# Altium footprint library SmartHalo_Footprints.PcbLib: 114 footprints (part 8 of 8)
Each footprint in its own frame and in the unit in brackets; x right, y up, seen from the top. Pads: shape width x height; smd on the part's side, far side on the other; paste and mask are expansions set on the pad; w line width, h text height; cw(c..) or ccw(c..) is an arc to the next point about the centre after c.
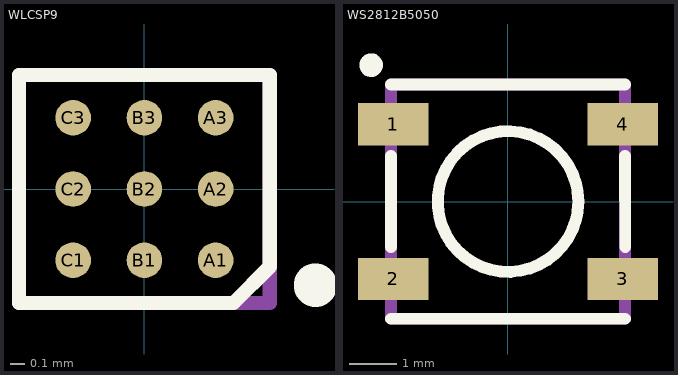
[diagram p7: the footprints below, top view; thin cyan lines are the x and y axes]

## WLCSP9 [mm] "WLCSP9, 1.6 x 1.76 mm, 9 pads 0.25 mm diameter, 0.5 mm pitch"
height 0.013
pads (9):
  round 0.25 smd mask+0.051: A1(0.5,-0.5) A2(0.5,0) A3(0.5,0.5) B1(0,-0.5) B2(0,0) B3(0,0.5) C1(-0.5,-0.5) C2(-0.5,0) C3(-0.5,0.5)
Top Overlay:
  circle w0.254: c1.2,-0.675 r0.025
  lines w0.1: -0.88,-0.8 -0.88,0.8 ; -0.875,-0.8 0.625,-0.8 0.88,-0.545 0.88,0.8 ; -0.875,0.8 0.875,0.8
3D Top:
  lines w0.1: -0.88,-0.8 -0.88,0.8 0.88,0.8 0.88,-0.8 -0.88,-0.8
3D body: height 0.51, standoff 0.19, extent -0.88,-0.8 0.88,0.8

## WS2812B5050 [mm] "WS RGB LED 5V SERIAL"
height 1.587
pads (4):
  rect 1.5x0.9 smd: 1(-2.45,1.65) 2(-2.45,-1.65) 3(2.45,-1.65) 4(2.45,1.65)
Top Overlay:
  circle w0.254: c0,0 r1.5
  circle w0.254: c-2.92,2.91 r0.125
  lines w0.254: -2.5,-2.5 2.5,-2.5 ; -2.5,-0.97 -2.5,0.97 ; -2.5,2.5 2.5,2.5 ; 2.5,0.97 2.502,-0.97
3D Top:
  lines w0.254: -2.5,-2.5 2.5,-2.5 2.5,2.5 -2.5,2.5 -2.5,-2.5
3D body: height 1.59, standoff 0, extent -2.5,-2.5 2.5,2.5